# EAGLE library part MICROSD-BREAKOUT (library sb2030_logger)
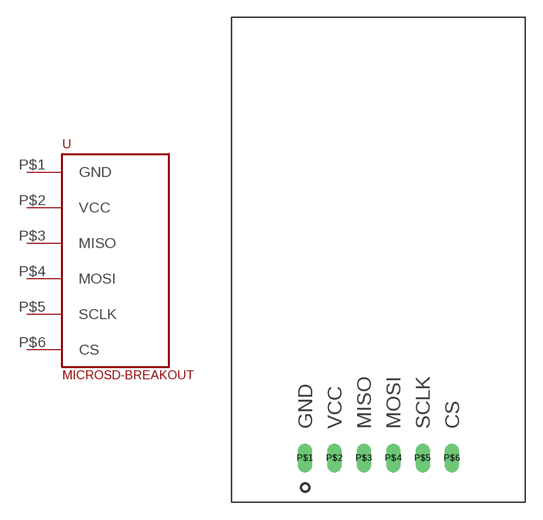
[diagram p5: symbol with the pads of MICROSD-BREAKOUT; footprint MICROSD-BREAKOUT]

Designator prefix -

## MICROSD-BREAKOUT  [MICROSD-BREAKOUT]
P$1  GND
P$2  VCC
P$3  MISO
P$4  MOSI
P$5  SCLK
P$6  CS

## Footprint MICROSD-BREAKOUT (pad centres in mm)
drill 0.75 long: P$1 -6.35,-17.78; P$2 -3.81,-17.78; P$3 -1.27,-17.78; P$4 1.27,-17.78; P$5 3.81,-17.78; P$6 6.35,-17.78